# EAGLE library part 61304021821 (library Wuerth_Elektronik_eiCan_Pin_&_Socked_Headers_v1.3)
WR-PHD 2.54mm Dual Socket Header, 40 Pins
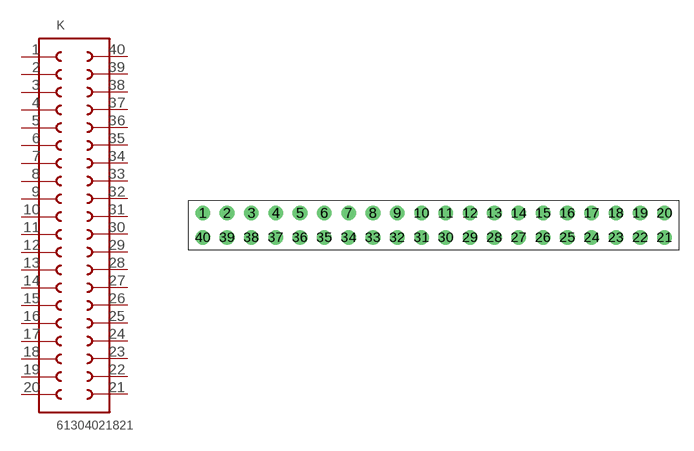
[diagram p143: symbol with the pads of 61304021821; footprint 61304021821]

Designator prefix K

## 61304021821  [61304021821]
1  1  pas
2  2  pas
3  3  pas
4  4  pas
5  5  pas
6  6  pas
7  7  pas
8  8  pas
9  9  pas
10  10  pas
11  11  pas
12  12  pas
13  13  pas
14  14  pas
15  15  pas
16  16  pas
17  17  pas
18  18  pas
19  19  pas
20  20  pas
21  21  pas
22  22  pas
23  23  pas
24  24  pas
25  25  pas
26  26  pas
27  27  pas
28  28  pas
29  29  pas
30  30  pas
31  31  pas
32  32  pas
33  33  pas
34  34  pas
35  35  pas
36  36  pas
37  37  pas
38  38  pas
39  39  pas
40  40  pas

## Footprint 61304021821 (pad centres in mm)
WR-PHD 2.54mm Dual Socket Header, 40 Pins
drill 1.02 round: 1 -24.13,1.27; 2 -21.59,1.27; 3 -19.05,1.27; 4 -16.51,1.27; 5 -13.97,1.27; 6 -11.43,1.27; 7 -8.89,1.27; 8 -6.35,1.27; 9 -3.81,1.27; 10 -1.27,1.27; 11 1.27,1.27; 12 3.81,1.27; 13 6.35,1.27; 14 8.89,1.27; 15 11.43,1.27; 16 13.97,1.27; 17 16.51,1.27; 18 19.05,1.27; 19 21.59,1.27; 20 24.13,1.27; 21 24.13,-1.27; 22 21.59,-1.27; 23 19.05,-1.27; 24 16.51,-1.27; 25 13.97,-1.27; 26 11.43,-1.27; 27 8.89,-1.27; 28 6.35,-1.27; 29 3.81,-1.27; 30 1.27,-1.27; 31 -1.27,-1.27; 32 -3.81,-1.27; 33 -6.35,-1.27; 34 -8.89,-1.27; 35 -11.43,-1.27; 36 -13.97,-1.27; 37 -16.51,-1.27; 38 -19.05,-1.27; 39 -21.59,-1.27; 40 -24.13,-1.27